# Altium schematic symbol library SI2365EDS-T1-GE3.SchLib: 1 symbol
Pins are listed as number, name and electrical type; pins without a type are passive.

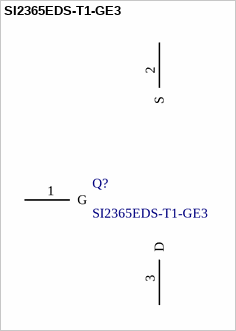
[diagram p0: symbol SI2365EDS-T1-GE3]

## SI2365EDS-T1-GE3
designator Q?
Small Signal Field-Effect Transistor, 5.9A I(D), 20V, 1-Element, P-Channel, Silicon, Metal-oxide Semiconductor FET, TO-236AB; Manufacturer: Vishay Siliconix; Package Body Material: Plastic; Drain-source On Resistance-Max: 41mR; Number of Elements: 1; Operating Mode: ENHANCEMENT MODE; Power Dissipation-Max (Abs): 1.7W; Time @ Peak Reflow Temperature-Max (s): 30s; Transistor Application: SWITCHING; Supplier: Avnet; Supplier Part Number: 70AC6497; Manufacturer Part Number: SI2365EDS-T1-GE3; RoHS: Yes; Category: MOSFETs; Stock: 3000; Pricing: 1=0.39, 25=0.237, 50=0.18, 100=0.123, 250=0.167 (USD); Pins: 3; Package Shape: Rectangular; Terminal Finish: Tin; Transistor Element Material: SILICON; Max Operating Temperature: 150°C; JESD-609 Code: e3; Polarity/Channel Type: P-CHANNEL; Drain Current-Max (Abs) (ID): 5.9A; Drain Current-Max (ID): 5.9A; DS Breakdown Voltage-Min: 20V; FET Technology: METAL-OXIDE SEMICONDUCTOR; JESD-30 Code: R-PDSO-G3; Moisture Sensitivity Level: 1; Package Style: SMALL OUTLINEMeter; Peak Reflow Temperature (Cel): 260°C; Surface Mount: Yes; Terminal Form: Gull Wing; Terminal Position: DUAL; JEDEC-95 Code: TO-236AB; Reach SVHC Compliant: Yes; RoHS Compliant: Yes; ComponentLink1URL: https://datasheet.ciiva.com:443/pdfs/VipMasterIC/IC/VISH/VISH-S-A0001142567/VISH-S-A0001142567-1.pdf?src-supplier=IHS+Markit; ComponentLink1Description: https://datasheet.ciiva.com:443/pdfs/VipMasterIC/IC/VISH/VISH-S-A0001142567/VISH-S-A0001142567-1.pdf?src-supplier=IHS+Markit; ComponentLink2URL: https://datasheet.ciiva.com/6376/si2365eds-6376289.pdf?src-supplier=Digikey; ComponentLink2Description: https://datasheet.ciiva.com/6376/si2365eds-6376289.pdf?src-supplier=Digikey; ComponentLink3URL: https://datasheet.ciiva.com/6376/si2365eds-6376283.pdf?src-supplier=Digikey; ComponentLink3Description: https://datasheet.ciiva.com/6376/si2365eds-6376283.pdf?src-supplier=Digikey
footprint SOT95P237X110-3M (SOT23, 3-Leads, Body 2.92x2.37mm, Pitch 0.95mm, IPC Low Density)
pins: 1 G, 2 S, 3 D